# Altium schematic symbol library 206-124.SchLib: 1 symbol
Pins are listed as number, name and electrical type; pins without a type are passive.

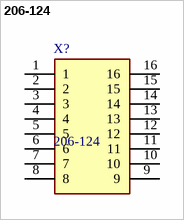
[diagram p0: symbol 206-124]

## 206-124
designator X?
4 Way Through Hole DIP Switch Single Pole Double Throw (SPDT), Standard Actuator; Manufacturer_Name: CTS; Geometry.Height: 8.49mm; Mouser Part Number: 774-206124; Mouser Price/Stock: https://www.mouser.co.uk/ProductDetail/CTS-Electronic-Components/206-124?qs=YquLqel%252BdSwQ37OnMfpodQ%3D%3D; Manufacturer_Part_Number: 206-124; Datasheet Link: https://datasheet.datasheetarchive.com/originals/distributors/SFDatasheet-0/sf-0002828.pdf
footprint 206124
pins: 1, 2, 3, 4, 5, 6, 7, 8, 9, 10, 11, 12, 13, 14, 15, 16